# Altium footprint library ZJUNlict_footprint.PcbLib: 113 footprints (part 3 of 8)
Each footprint in its own frame and in the unit in brackets; x right, y up, seen from the top. Pads: shape width x height; smd on the part's side, far side on the other; paste and mask are expansions set on the pad; w line width, h text height; cw(c..) or ccw(c..) is an arc to the next point about the centre after c.
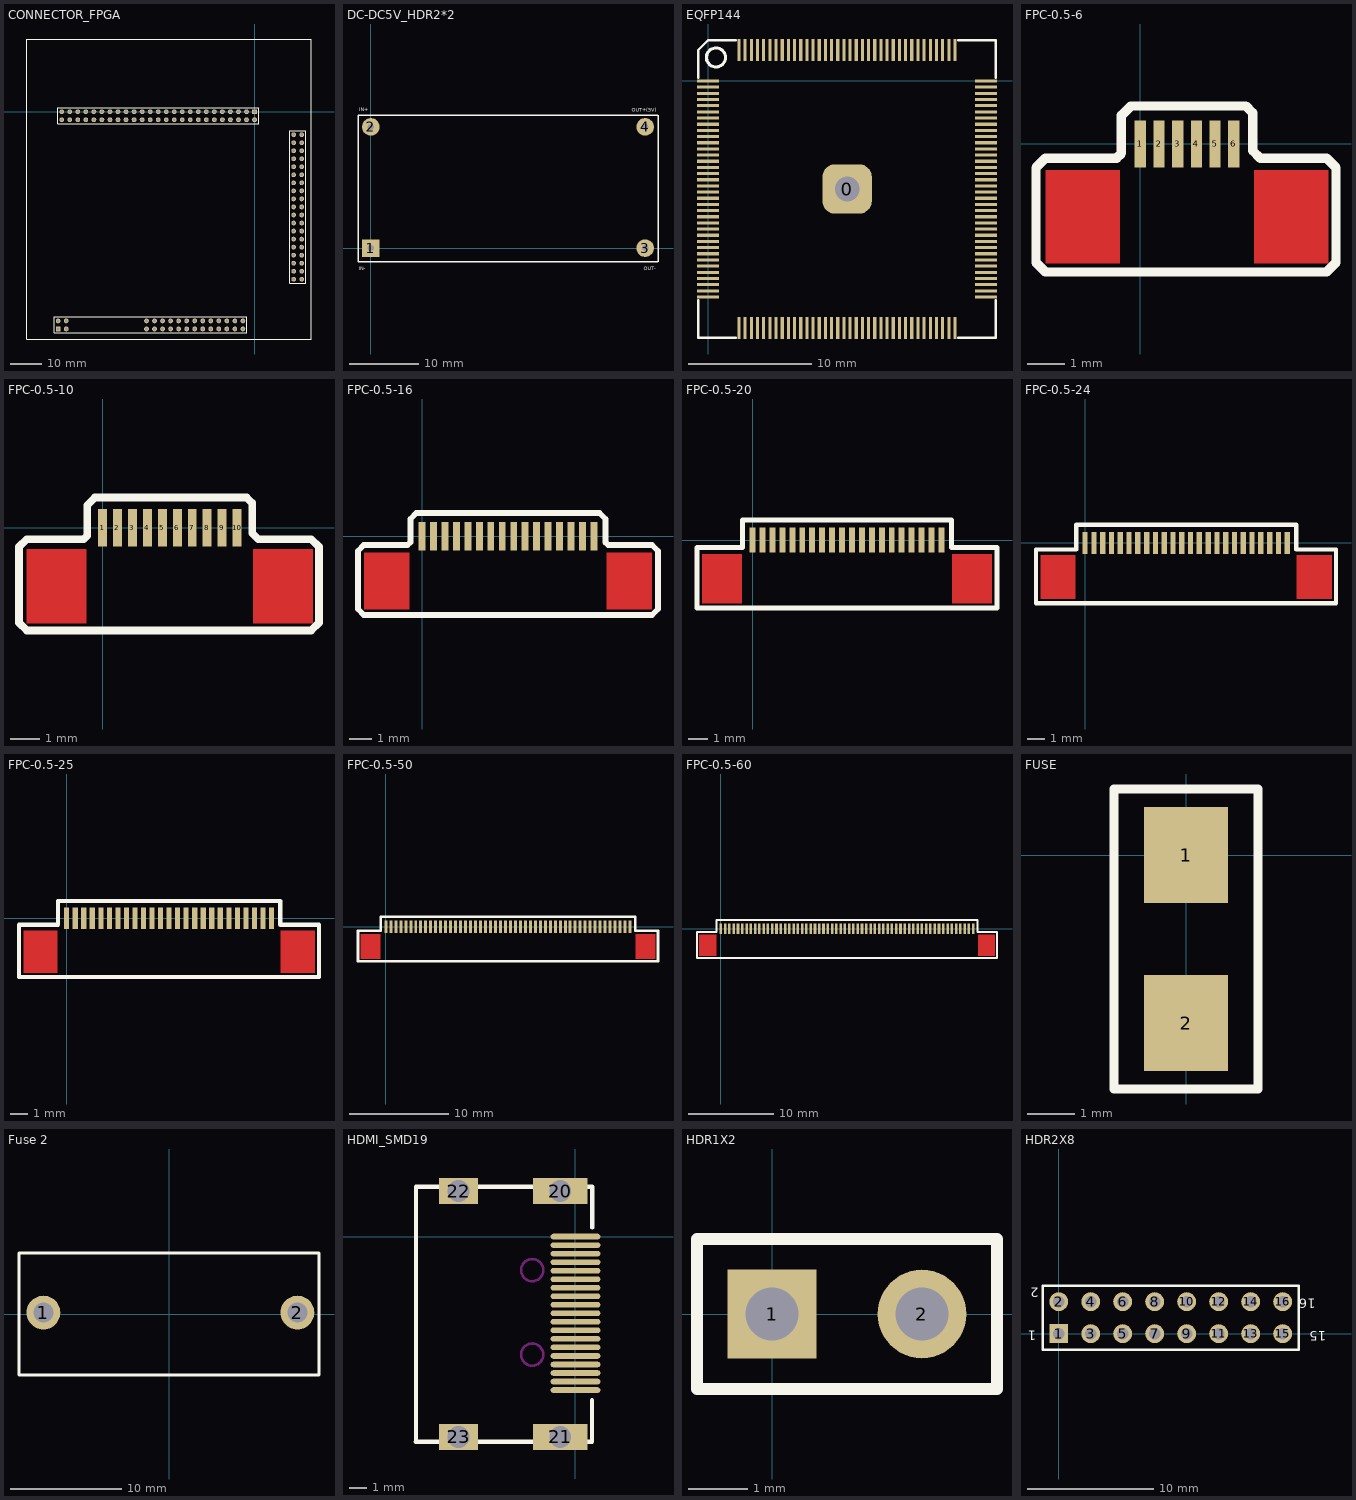
[diagram p2: the footprints below, top view; thin cyan lines are the x and y axes]

## CONNECTOR_FPGA [mm]
pads (118):
  rect 1.5x1.5 hole 0.9: 1(0,0) 51(-62.103,-68.707)
  round 1.5 hole 0.9: 2(0,-2.54) 3(-2.54,0) 4(-2.54,-2.54) 5(-5.08,0) 6(-5.08,-2.54) 7(-7.62,0) 8(-7.62,-2.54) 9(-10.16,0) 10(-10.16,-2.54) 11(-12.7,0) 12(-12.7,-2.54) 13(-15.24,0) 14(-15.24,-2.54) 15(-17.78,0) 16(-17.78,-2.54) 17(-20.32,0) 18(-20.32,-2.54) 19(-22.86,0) 20(-22.86,-2.54) 21(-25.4,0) 22(-25.4,-2.54) 23(-27.94,0) 24(-27.94,-2.54) 25(-30.48,0) 26(-30.48,-2.54) 27(-33.02,0) 28(-33.02,-2.54) 29(-35.56,0) 30(-35.56,-2.54) 31(-38.1,0) 32(-38.1,-2.54) 33(-40.64,0) 34(-40.64,-2.54) 35(-43.18,0) 36(-43.18,-2.54) 37(-45.72,0) 38(-45.72,-2.54) 39(-48.26,0) 40(-48.26,-2.54) 41(-50.8,0) 42(-50.8,-2.54) 43(-53.34,0) 44(-53.34,-2.54) 45(-55.88,0) 46(-55.88,-2.54) 47(-58.42,0) 48(-58.42,-2.54) 49(-60.96,0) 50(-60.96,-2.54) 52(-62.103,-66.167) 53(-59.563,-68.707) 54(-59.563,-66.167) 73(-34.163,-68.707) 74(-34.163,-66.167) 75(-31.623,-68.707) 76(-31.623,-66.167) 77(-29.083,-68.707) 78(-29.083,-66.167) 79(-26.543,-68.707) 80(-26.543,-66.167) 81(-24.003,-68.707) 82(-24.003,-66.167) 83(-21.463,-68.707) 84(-21.463,-66.167) 85(-18.923,-68.707) 86(-18.923,-66.167) 87(-16.383,-68.707) 88(-16.383,-66.167) 89(-13.843,-68.707) 90(-13.843,-66.167) 91(-11.303,-68.707) 92(-11.303,-66.167) 93(-8.763,-68.707) 94(-8.763,-66.167) 95(-6.223,-68.707) 96(-6.223,-66.167) 97(-3.683,-68.707) 98(-3.683,-66.167) 113(14.91,-52.984) 114(12.37,-52.984) 115(14.91,-50.444) 116(12.37,-50.444) 117(14.91,-47.904) 118(12.37,-47.904) 119(14.91,-45.364) 120(12.37,-45.364) 121(14.91,-42.824) 122(12.37,-42.824) 123(14.91,-40.284) 124(12.37,-40.284) 125(14.91,-37.744) 126(12.37,-37.744) 127(14.91,-35.204) 128(12.37,-35.204) 129(14.91,-32.664) 130(12.37,-32.664) 131(14.91,-30.124) 132(12.37,-30.124) 133(14.91,-27.584) 134(12.37,-27.584) 135(14.91,-25.044) 136(12.37,-25.044) 137(14.91,-22.504) 138(12.37,-22.504) 139(14.91,-19.964) 140(12.37,-19.964) 141(14.91,-17.424) 142(12.37,-17.424) 143(14.91,-14.884) 144(12.37,-14.884) 145(14.91,-12.344) 146(12.37,-12.344) 147(14.91,-9.804) 148(12.37,-9.804) 149(14.91,-7.264) 150(12.37,-7.264)
Top Overlay:
  lines w0.2: -63.373,-69.977 -2.413,-69.977 -2.413,-64.897 -63.373,-64.897 -63.373,-69.977 ; -62.23,-3.81 -62.23,1.27 1.27,1.27 1.27,-3.81 -62.23,-3.81 ; 11.1,-54.254 11.1,-5.994 16.18,-5.994 16.18,-54.254 11.1,-54.254
  lines w0.203: 17.907,-71.882 -72.009,-71.882 -72.009,22.987 17.907,22.987
  lines w0.254: 17.882,-71.857 17.882,22.987

## DC-DC5V_HDR2*2 [mm] "Connector; Header; 12x2 Position"
pads (4):
  rect 2.54x2.54 hole 0.9: 1(0,0)
  round 2.54 hole 0.9: 2(0,17.45) 3(39.497,0) 4(39.497,17.45)
Top Overlay:
  lines w0.2: -1.842,-1.968 41.338,-1.968 41.338,19.113 -1.842,19.114 -1.841,-1.968
  text "IN+" at -1.676,19.71 h0.51
  text "IN-" at -1.753,-3.2 h0.51
  text "OUT-" at 39.268,-3.175 h0.51
  text "OUT+(5V)" at 37.567,19.66 h0.51

## EQFP144 [mm] "LQFP144 with a center hole"
pads (145):
  rrect50% 4x4 hole 2: 0(11.25,-8.75)
  rect 1.8x0.254 smd: 1(-0.009,0.001) 2(-0.009,-0.499) 3(-0.009,-0.999) 4(-0.009,-1.499) 5(-0.009,-1.999) 6(-0.009,-2.499) 7(-0.009,-2.999) 8(-0.009,-3.499) 9(-0.009,-3.999) 10(-0.009,-4.499) 11(-0.009,-4.999) 12(-0.009,-5.499) 13(-0.009,-5.999) 14(-0.009,-6.499) 15(-0.009,-6.999) 16(-0.009,-7.499) 17(-0.009,-7.999) 18(-0.009,-8.499) 19(-0.009,-8.999) 20(-0.009,-9.499) 21(-0.009,-9.999) 22(-0.009,-10.499) 23(-0.009,-10.999) 24(-0.009,-11.499) 25(-0.009,-11.999) 26(-0.009,-12.499) 27(-0.009,-12.999) 28(-0.009,-13.499) 29(-0.009,-13.999) 30(-0.009,-14.499) 31(-0.009,-14.999) 32(-0.009,-15.499) 33(-0.009,-15.999) 34(-0.009,-16.499) 35(-0.009,-16.999) 36(-0.009,-17.499) 73(22.491,-17.499) 74(22.491,-16.999) 75(22.491,-16.499) 76(22.491,-15.999) 77(22.491,-15.499) 78(22.491,-14.999) 79(22.491,-14.499) 80(22.491,-13.999) 81(22.491,-13.499) 82(22.491,-12.999) 83(22.491,-12.499) 84(22.491,-11.999) 85(22.491,-11.499) 86(22.491,-10.999) 87(22.491,-10.499) 88(22.491,-9.999) 89(22.491,-9.499) 90(22.491,-8.999) 91(22.491,-8.499) 92(22.491,-7.999) 93(22.491,-7.499) 94(22.491,-6.999) 95(22.491,-6.499) 96(22.491,-5.999) 97(22.491,-5.499) 98(22.491,-4.999) 99(22.491,-4.499) 100(22.491,-3.999) 101(22.491,-3.499) 102(22.491,-2.999) 103(22.491,-2.499) 104(22.491,-1.999) 105(22.491,-1.499) 106(22.491,-0.999) 107(22.491,-0.499) 108(22.491,0.001)
  rect 0.254x1.8 smd: 37(2.491,-19.999) 38(2.991,-19.999) 39(3.491,-19.999) 40(3.991,-19.999) 41(4.491,-19.999) 42(4.991,-19.999) 43(5.491,-19.999) 44(5.991,-19.999) 45(6.491,-19.999) 46(6.991,-19.999) 47(7.491,-19.999) 48(7.991,-19.999) 49(8.491,-19.999) 50(8.991,-19.999) 51(9.491,-19.999) 52(9.991,-19.999) 53(10.491,-19.999) 54(10.991,-19.999) 55(11.491,-19.999) 56(11.991,-19.999) 57(12.491,-19.999) 58(12.991,-19.999) 59(13.491,-19.999) 60(13.991,-19.999) 61(14.491,-19.999) 62(14.991,-19.999) 63(15.491,-19.999) 64(15.991,-19.999) 65(16.491,-19.999) 66(16.991,-19.999) 67(17.491,-19.999) 68(17.991,-19.999) 69(18.491,-19.999) 70(18.991,-19.999) 71(19.491,-19.999) 72(19.991,-19.999) 109(19.991,2.501) 110(19.491,2.501) 111(18.991,2.501) 112(18.491,2.501) 113(17.991,2.501) 114(17.491,2.501) 115(16.991,2.501) 116(16.491,2.501) 117(15.991,2.501) 118(15.491,2.501) 119(14.991,2.501) 120(14.491,2.501) 121(13.991,2.501) 122(13.491,2.501) 123(12.991,2.501) 124(12.491,2.501) 125(11.991,2.501) 126(11.491,2.501) 127(10.991,2.501) 128(10.491,2.501) 129(9.991,2.501) 130(9.491,2.501) 131(8.991,2.501) 132(8.491,2.501) 133(7.991,2.501) 134(7.491,2.501) 135(6.991,2.501) 136(6.491,2.501) 137(5.991,2.501) 138(5.491,2.501) 139(4.991,2.501) 140(4.491,2.501) 141(3.991,2.501) 142(3.491,2.501) 143(2.991,2.501) 144(2.491,2.501)
Top Overlay:
  circle w0.254: c0.624,1.905 r0.773
  lines w0.2: -0.809,-17.749 -0.809,-20.799 2.241,-20.799 ; -0.809,0.251 -0.809,2.501 -0.009,3.301 2.241,3.301 ; 20.241,-20.799 23.291,-20.799 23.291,-17.749 ; 20.241,3.301 23.291,3.301 23.291,0.251

## FPC-0.5-6 [mm]
pads (6):
  rect 0.3x1.25 smd: 1(0,0) 2(0.5,0) 3(1,0) 4(1.5,0) 5(2,0) 6(2.5,0)
Top Layer:
  rectangle: 3.04,-3.2 5.04,-0.7
  rectangle: -2.54,-3.2 -0.54,-0.7
Top Overlay:
  lines w0.254: -2.794,-3.175 -2.54,-3.429 4.985,-3.429 5.239,-3.175 5.239,-0.635 4.985,-0.381 3.207,-0.381 3.009,-0.183 3.009,0.833 2.826,1.016 -0.254,1.016 -0.508,0.762 -0.508,-0.254 -0.635,-0.381 -2.54,-0.381 -2.794,-0.635 -2.794,-3.175

## FPC-0.5-10 [mm]
pads (10):
  rect 0.3x1.25 smd: 1(0,0) 2(0.5,0) 3(1,0) 4(1.5,0) 5(2,0) 6(2.5,0) 7(3,0) 8(3.5,0) 9(4,0) 10(4.5,0)
Top Layer:
  rectangle: 5.04,-3.2 7.04,-0.7
  rectangle: -2.54,-3.2 -0.54,-0.7
Top Overlay:
  lines w0.254: -2.794,-3.175 -2.54,-3.429 6.985,-3.429 7.239,-3.175 7.239,-0.635 6.985,-0.381 5.207,-0.381 5.009,-0.183 5.009,0.833 4.826,1.016 -0.254,1.016 -0.508,0.762 -0.508,-0.254 -0.635,-0.381 -2.54,-0.381 -2.794,-0.635 -2.794,-3.175

## FPC-0.5-16 [mm]
pads (16):
  rect 0.3x1.25 smd: 1(0,0) 2(0.5,0) 3(1,0) 4(1.5,0) 5(2,0) 6(2.5,0) 7(3,0) 8(3.5,0) 9(4,0) 10(4.5,0) 11(5,0) 12(5.5,0) 13(6,0) 14(6.5,0) 15(7,0) 16(7.5,0)
Top Layer:
  rectangle: 8.04,-3.2 10.04,-0.7
  rectangle: -2.54,-3.2 -0.54,-0.7
Top Overlay:
  lines w0.254: -2.794,-3.175 -2.54,-3.429 10.033,-3.429 10.295,-3.167 10.295,-0.643 10.033,-0.381 8.128,-0.381 8.009,-0.262 8.009,0.754 7.747,1.016 -0.254,1.016 -0.508,0.762 -0.508,-0.254 -0.635,-0.381 -2.54,-0.381 -2.794,-0.635 -2.794,-3.175

## FPC-0.5-20 [mm]
pads (20):
  rect 0.3x1.25 smd: 1(0,0) 2(0.5,0) 3(1,0) 4(1.5,0) 5(2,0) 6(2.5,0) 7(3,0) 8(3.5,0) 9(4,0) 10(4.5,0) 11(5,0) 12(5.5,0) 13(6,0) 14(6.5,0) 15(7,0) 16(7.5,0) 17(8,0) 18(8.5,0) 19(9,0) 20(9.5,0)
Top Layer:
  rectangle: -2.54,-3.2 -0.54,-0.7
  rectangle: 10.04,-3.2 12.04,-0.7
Top Overlay:
  lines w0.254: 10.008,-0.381 12.294,-0.381 12.294,-3.429 -2.794,-3.429 -2.794,-0.381 -0.508,-0.381 -0.508,1.016 10.008,1.016 ; 10.009,-0.368 10.009,1.016

## FPC-0.5-24 [mm]
pads (24):
  rect 0.3x1.25 smd: 1(0,0) 2(0.5,0) 3(1,0) 4(1.5,0) 5(2,0) 6(2.5,0) 7(3,0) 8(3.5,0) 9(4,0) 10(4.5,0) 11(5,0) 12(5.5,0) 13(6,0) 14(6.5,0) 15(7,0) 16(7.5,0) 17(8,0) 18(8.5,0) 19(9,0) 20(9.5,0) 21(10,0) 22(10.5,0) 23(11,0) 24(11.5,0)
Top Layer:
  rectangle: -2.54,-3.2 -0.54,-0.7
  rectangle: 12.04,-3.2 14.04,-0.7
Top Overlay:
  lines w0.254: 12.009,-0.368 12.009,1.016 -0.508,1.016 -0.508,-0.381 -2.794,-0.381 -2.794,-3.429 14.275,-3.429 14.275,-0.381 12.014,-0.381

## FPC-0.5-25 [mm]
pads (25):
  rect 0.3x1.25 smd: 1(0,0) 2(0.5,0) 3(1,0) 4(1.5,0) 5(2,0) 6(2.5,0) 7(3,0) 8(3.5,0) 9(4,0) 10(4.5,0) 11(5,0) 12(5.5,0) 13(6,0) 14(6.5,0) 15(7,0) 16(7.5,0) 17(8,0) 18(8.5,0) 19(9,0) 20(9.5,0) 21(10,0) 22(10.5,0) 23(11,0) 24(11.5,0) 25(12,0)
Top Layer:
  rectangle: 12.54,-3.2 14.54,-0.7
  rectangle: -2.54,-3.2 -0.54,-0.7
Top Overlay:
  lines w0.254: -2.794,-3.429 -2.794,-0.381 -0.508,-0.381 -0.508,1.016 12.509,1.016 12.509,-0.368 12.522,-0.381 14.783,-0.381 14.783,-3.429 -2.794,-3.429

## FPC-0.5-50 [mm]
pads (50):
  rect 0.3x1.25 smd: 1(0,0) 2(0.5,0) 3(1,0) 4(1.5,0) 5(2,0) 6(2.5,0) 7(3,0) 8(3.5,0) 9(4,0) 10(4.5,0) 11(5,0) 12(5.5,0) 13(6,0) 14(6.5,0) 15(7,0) 16(7.5,0) 17(8,0) 18(8.5,0) 19(9,0) 20(9.5,0) 21(10,0) 22(10.5,0) 23(11,0) 24(11.5,0) 25(12,0) 26(12.5,0) 27(13,0) 28(13.5,0) 29(14,0) 30(14.5,0) 31(15,0) 32(15.5,0) 33(16,0) 34(16.5,0) 35(17,0) 36(17.5,0) 37(18,0) 38(18.5,0) 39(19,0) 40(19.5,0) 41(20,0) 42(20.5,0) 43(21,0) 44(21.5,0) 45(22,0) 46(22.5,0) 47(23,0) 48(23.5,0) 49(24,0) 50(24.5,0)
Top Layer:
  rectangle: -2.54,-3.2 -0.54,-0.7
  rectangle: 25.04,-3.2 27.04,-0.7
Top Overlay:
  lines w0.254: 24.994,1.016 -0.508,1.016 -0.508,-0.381 -2.794,-0.381 -2.794,-3.429 27.305,-3.429 27.305,-0.381 25.019,-0.381 ; 25.009,-0.368 25.009,1.016

## FPC-0.5-60 [mm]
pads (60):
  rect 0.3x1.25 smd: 1(0,0) 2(0.5,0) 3(1,0) 4(1.5,0) 5(2,0) 6(2.5,0) 7(3,0) 8(3.5,0) 9(4,0) 10(4.5,0) 11(5,0) 12(5.5,0) 13(6,0) 14(6.5,0) 15(7,0) 16(7.5,0) 17(8,0) 18(8.5,0) 19(9,0) 20(9.5,0) 21(10,0) 22(10.5,0) 23(11,0) 24(11.5,0) 25(12,0) 26(12.5,0) 27(13,0) 28(13.5,0) 29(14,0) 30(14.5,0) 31(15,0) 32(15.5,0) 33(16,0) 34(16.5,0) 35(17,0) 36(17.5,0) 37(18,0) 38(18.5,0) 39(19,0) 40(19.5,0) 41(20,0) 42(20.5,0) 43(21,0) 44(21.5,0) 45(22,0) 46(22.5,0) 47(23,0) 48(23.5,0) 49(24,0) 50(24.5,0) 51(25,0) 52(25.5,0) 53(26,0) 54(26.5,0) 55(27,0) 56(27.5,0) 57(28,0) 58(28.5,0) 59(29,0) 60(29.5,0)
Top Layer:
  rectangle: 30.04,-3.2 32.04,-0.7
  rectangle: -2.54,-3.2 -0.54,-0.7
Top Overlay:
  lines w0.254: 30.009,-0.381 32.283,-0.381 32.283,-3.429 -2.794,-3.429 -2.794,-0.381 -0.508,-0.381 -0.508,1.016 30.009,1.016 30.009,-0.368

## FUSE [mil]
pads (2):
  rect 70x80 smd: 1(0,0) 2(0,-140)
Top Overlay:
  lines w7.87: 58.11,-195 -60,-195 -60,55 60,55 60,-195

## Fuse 2 [mil]
pads (2):
  round 120 hole 70: 1(-445,5) 2(455,5)
Top Overlay:
  lines w10: -531.5,-216.54 -531.5,216.54 531.5,216.54 531.5,-216.54 -531.5,-216.54

## HDMI_SMD19 [mil]
pads (23):
  oval 115x13 smd mask+4: 1(0,0) 2(0,-19.68) 3(0,-39.37) 4(0,-59.06) 5(0,-78.74) 6(0,-98.43) 7(0,-118.11) 8(0,-137.8) 9(0,-157.48) 10(0,-177.17) 11(0,-196.85) 12(0,-216.54) 13(0,-236.22) 14(0,-255.91) 15(0,-275.59) 16(0,-295.28) 17(0,-314.96) 18(0,-334.65) 19(0,-354.33)
  rect 125x60 hole 50 square mask+4: 20(-35,105) 21(-35,-462.5)
  rect 90x60 hole 50 square mask+4: 22(-270,105) 23(-270,-462.5)
Top Overlay:
  lines w10: -369.06,-473.39 38,-473.39 38,-378 ; -368.28,115.16 38.76,115.16 38.76,21 ; -368,-473 -368,115
Keep-Out Layer:
  circle w6: c-100,-77.5 r25.59
  circle w6: c-100,-272.5 r25.59

## HDR1X2 [mm] "Connector; Header; 2 Position"
pads (2):
  rect 1.5x1.5 hole 0.9: 1(0,0)
  round 1.5 hole 0.9: 2(2.54,0)
Top Overlay:
  lines w0.2: -1.27,-1.27 3.81,-1.27 3.81,1.27 -1.27,1.27 -1.27,-1.27

## HDR2X8 [mm]
height 1.45
pads (16):
  rect 1.5x1.5 hole 0.9: 1(0,0)
  round 1.5 hole 0.9: 2(0,2.54) 3(2.54,0) 4(2.54,2.54) 5(5.08,0) 6(5.08,2.54) 7(7.62,0) 8(7.62,2.54) 9(10.16,0) 10(10.16,2.54) 11(12.7,0) 12(12.7,2.54) 13(15.24,0) 14(15.24,2.54) 15(17.78,0) 16(17.78,2.54)
Top Overlay:
  lines w0.2: -1.27,-1.27 -1.27,3.81 19.05,3.81 19.05,-1.27 -1.27,-1.27
  text "2" at -1.575,3.632 h0.76
  text "1" at -1.803,0.229 h0.76
  text "15" at 21.254,0.184 h0.76
  text "16" at 20.396,2.769 h0.76